# Altium footprint library Switch.PcbLib: 19 footprints (part 2 of 2)
Each footprint in its own frame and in the unit in brackets; x right, y up, seen from the top. Pads: shape width x height; smd on the part's side, far side on the other; paste and mask are expansions set on the pad; w line width, h text height; cw(c..) or ccw(c..) is an arc to the next point about the centre after c.
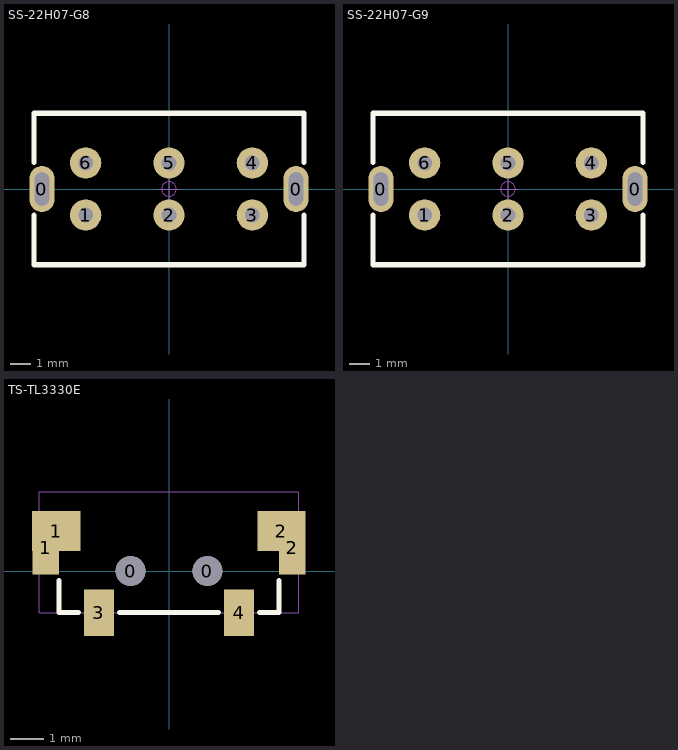
[diagram p1: the footprints below, top view; thin cyan lines are the x and y axes]

## SS-22H07-G8 [mm] "ï¿½ï¿½ï¿½ï¿½8mmï¿½ï¿½12.7x7x4.7mm(ï¿½ï¿½ï¿½ï¿½ï¿½)ï¿½ï¿½ï¿½Å¾"
pads (8):
  oval 1.2x2.2 hole 0.7 slot 1.6 at 90 deg: 0(-6.1,0) 0(6.1,0)
  round 1.5 hole 0.7: 1(-4,-1.25) 2(0,-1.25) 3(4,-1.25) 4(4,1.25) 5(0,1.25) 6(-4,1.25)
Top Overlay:
  lines w0.25: -6.477,-1.25 -6.477,-3.632 6.477,-3.632 6.477,-1.25 ; -6.477,1.27 -6.477,3.632 6.477,3.632 6.477,1.27
Mechanical 15:
  circle w0.05: c0,0 r0.35
  lines w0.05: -0.5,0 0.5,0 ; 0,-0.5 0,0.5
3D body "SS-22H07-G8.STEP": height 12.7, standoff -3.3, extent -6.351,-3.501 6.351,3.501

## SS-22H07-G9 [mm] "ï¿½ï¿½ï¿½ï¿½9mmï¿½ï¿½12.7x7x4.7mm(ï¿½ï¿½ï¿½ï¿½ï¿½)ï¿½ï¿½ï¿½Å¾"
pads (8):
  oval 1.2x2.2 hole 0.7 slot 1.6 at 90 deg: 0(-6.1,0) 0(6.1,0)
  round 1.5 hole 0.7: 1(-4,-1.25) 2(0,-1.25) 3(4,-1.25) 4(4,1.25) 5(0,1.25) 6(-4,1.25)
Top Overlay:
  lines w0.25: -6.477,-1.25 -6.477,-3.632 6.477,-3.632 6.477,-1.25 ; -6.477,1.27 -6.477,3.632 6.477,3.632 6.477,1.27
Mechanical 15:
  circle w0.05: c0,0 r0.35
  lines w0.05: -0.5,0 0.5,0 ; 0,-0.5 0,0.5
3D body "SS-22H07-G9.STEP": height 13.7, standoff -3.3, extent -6.351,-3.501 6.351,3.501

## TS-TL3330E [mm]
pads (8):
  round 0.9 hole 0.9 unplated mask+0.051: 0(-1.15,0) 0(1.15,0)
  rect 0.8x1.6 smd mask+0.051: 1(-3.7,0.7) 2(3.7,0.7)
  rect 1.45x1.2 smd mask+0.051: 1(-3.38,1.2) 2(3.375,1.2)
  rect 0.9x1.4 smd mask+0.051: 3(-2.1,-1.25) 4(2.1,-1.25)
Top Overlay:
  lines w0.15: -3.3,-0.28 -3.3,-1.25 -2.72,-1.25 ; -1.48,-1.25 1.49,-1.25 ; 2.71,-1.25 3.3,-1.25 3.3,-0.28
Mechanical 1:
  lines w0.02: -3.9,-1.25 3.9,-1.25 3.9,2.37 -3.9,2.37 -3.9,-1.25
3D body "TL3330AFxxxQG.stp": height 3.47, standoff -0.03, extent -3.9,-1.25 3.9,2.372